# EAGLE library part ARDUINIO_MINI_PRO_5V_MOD (library eBay parts)
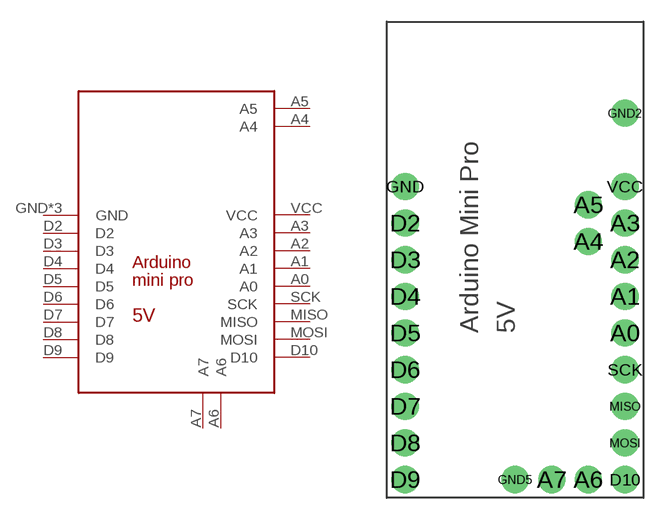
[diagram p3: symbol with the pads of ARDUINO_MINI_PRO_5V_MOD; footprint ARDUINO_MINI_PRO_5V_MOD]

Designator prefix -

## ARDUINIO_MINI_PRO_5V_MOD  [ARDUINO_MINI_PRO_5V_MOD]
A0  A0
A1  A1
A2  A2
A3  A3
A4  A4
A5  A5
A6  A6
A7  A7
D2  D2
D3  D3
D4  D4
D5  D5
D6  D6
D7  D7
D8  D8
D9  D9
D10  D10
GND  GND
GND2  GND
GND5  GND
MISO  MISO
MOSI  MOSI
SCK  SCK
VCC  VCC

## Footprint ARDUINO_MINI_PRO_5V_MOD (pad centres in mm)
drill 1.016 pad 1.88: A0 7.62,-5.08; A1 7.62,-2.54; A2 7.62,0; A3 7.62,2.54; A4 5.08,1.27; A5 5.08,3.81; A6 5.08,-15.24; A7 2.54,-15.24; D2 -7.62,2.54; D3 -7.62,0; D4 -7.62,-2.54; D5 -7.62,-5.08; D6 -7.62,-7.62; D7 -7.62,-10.16; D8 -7.62,-12.7; D9 -7.62,-15.24; D10 7.62,-15.24; GND -7.62,5.08; GND2 7.62,10.16; GND5 0,-15.24; MISO 7.62,-10.16; MOSI 7.62,-12.7; SCK 7.62,-7.62; VCC 7.62,5.08